# Altium schematic symbol library EVB_AIR208_S7_DEMO.SCHLIB: 37 symbols
Pins are listed as number, name and electrical type; pins without a type are passive.

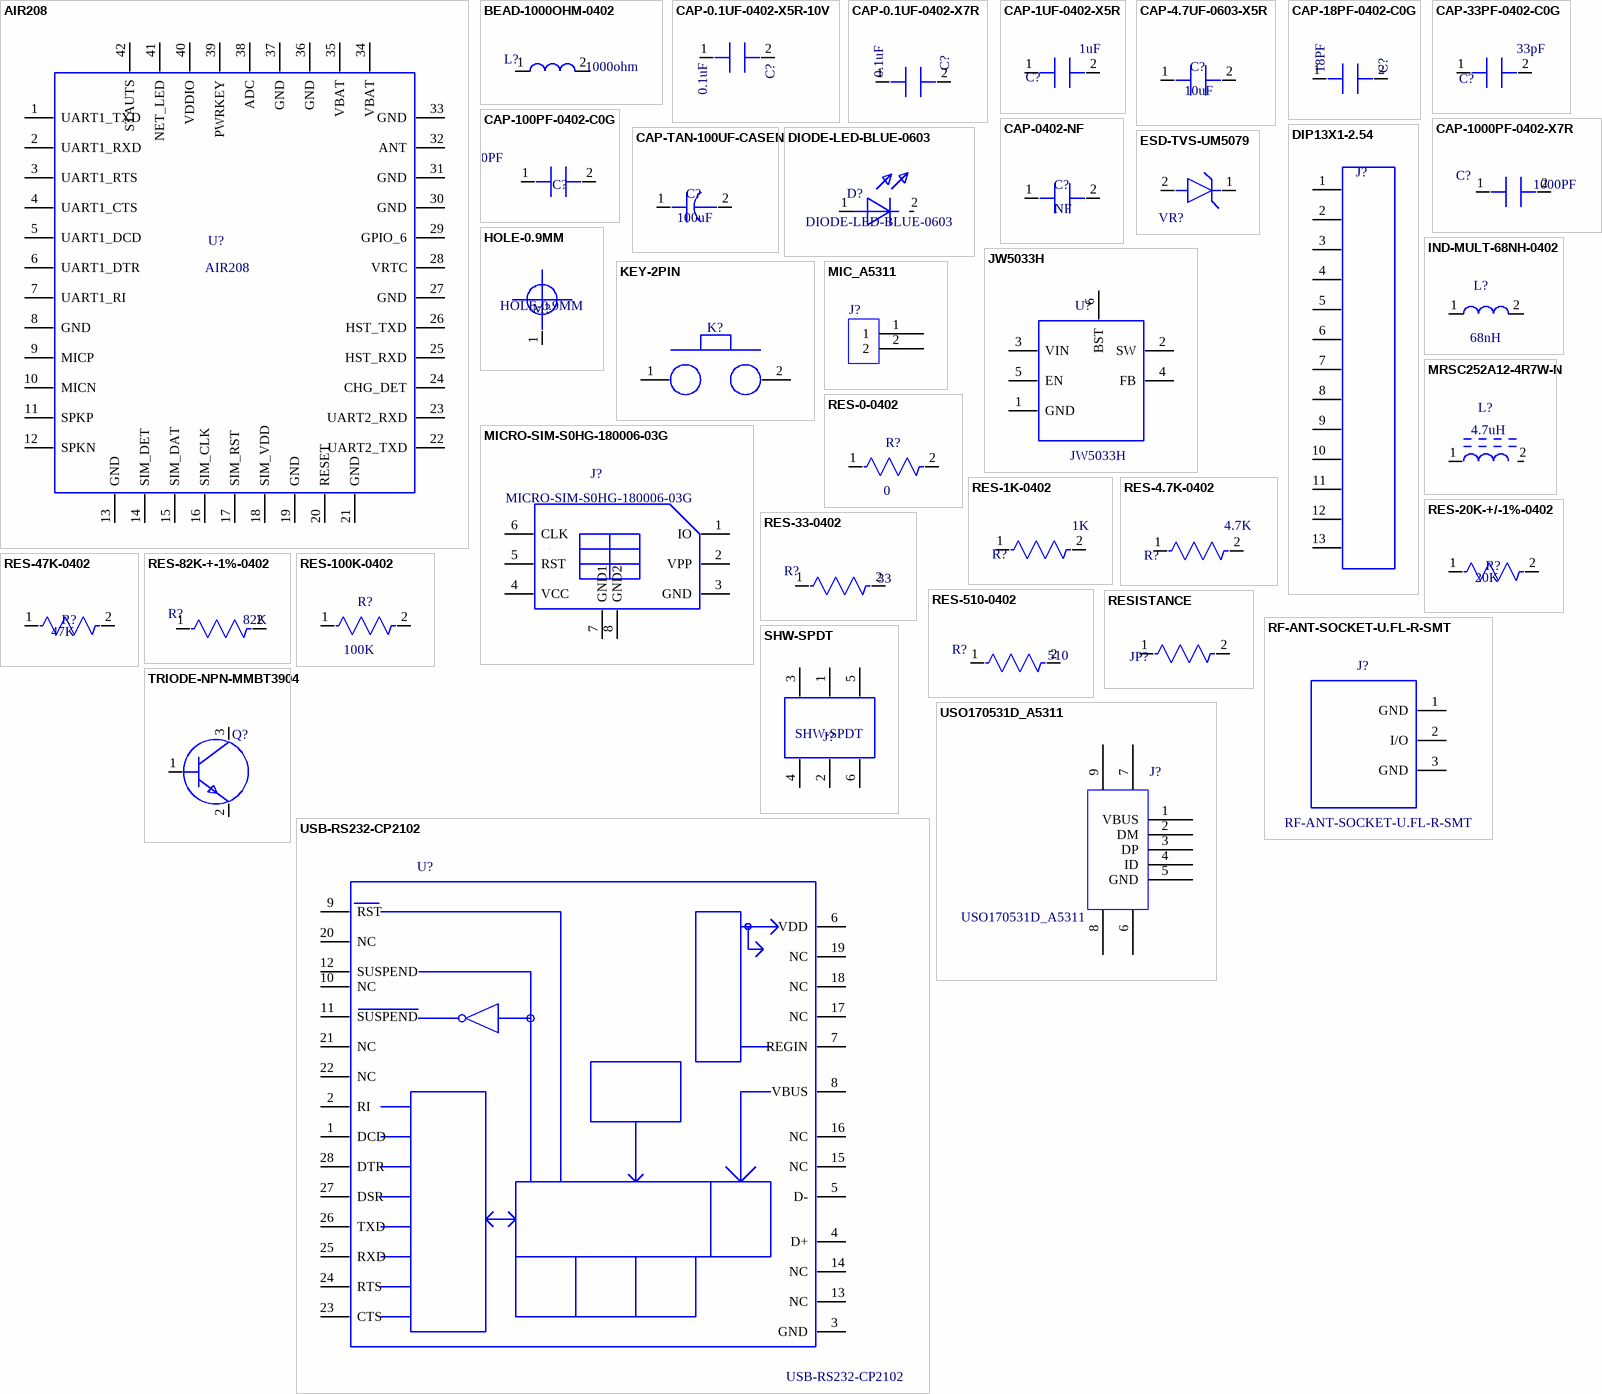
[diagram p0: symbols AIR208 to USO170531D_A5311]

## AIR208
designator U?
Geometry.Height: 2.3 mm; PCB DECAL: AIR208
pins: 1 UART1_TXD, 2 UART1_RXD, 3 UART1_RTS, 4 UART1_CTS, 5 UART1_DCD, 6 UART1_DTR, 7 UART1_RI, 8 GND, 9 MICP, 10 MICN, 11 SPKP, 12 SPKN, 13 GND, 14 SIM_DET, 15 SIM_DAT, 16 SIM_CLK, 17 SIM_RST, 18 SIM_VDD, 19 GND, 20 RESET, 21 GND, 22 UART2_TXD, 23 UART2_RXD, 24 CHG_DET, 25 HST_RXD, 26 HST_TXD, 27 GND, 28 VRTC, 29 GPIO_6, 30 GND, 31 GND, 32 ANT, 33 GND, 34 VBAT, 35 VBAT, 36 GND, 37 GND, 38 ADC, 39 PWRKEY, 40 VDDIO, 41 NET_LED, 42 STAUTS

## BEAD-1000OHM-0402
designator L?  value 1000ohm  (hidden comment: BEAD-1000OHM-0402)
Bead;1000ohm;250mA;0402;0.6mm;ROHS; Manufacture 1: Murata;Taiyo Yuden;Chilisin(奇力新)();; Manufacture 1 P/N: BLM15HD102SN1;BK1005HS102-T;SBJ100505T-102Y-N; Geometry.Height: 0.65mm; Serial Number: 80334000002; PCB DECAL: SL0402
pins: 1, 2

## CAP-0.1UF-0402-X5R-10V
designator C?  value 0.1uF  (hidden comment: CAP-0.1UF-0402-X5R-10V)
CAP CER X5R/X7R;0.1uF;+/-10%;10V;0402;0.5mm;ROHS; Manufacture 1: Murata;Yageo;Walsin;Eyang; Manufacture 1 P/N: GRM155R61A104K****;GRM155R71A104K****;CC0402KRX5R6BB104;0402X104K100CT;C0402X5R104K100N*; Geometry.Height: 0.55mm; Serial Number: 80214720001; PCB DECAL: SC0402; Tolerance: +/-10%
pins: 1, 2

## CAP-0.1UF-0402-X7R
designator C?  value 0.1uF  (hidden comment: CAP-0.1UF-0402-X7R)
CAP CER X7R;0.1uF;+/-10%;16V;0402;0.5mm;ROHS; Manufacture 1: MURATA;Walsin;Yageo;Eyang;; Manufacture 1 P/N: GRM155R71C104K****;0402X104K160CT;CC0402KRX7R7BB104;C0402X5R104K160N*; Geometry.Height: 0.55mm; Serial Number: 80214730006; PCB DECAL: SC0402; Tolerance: +/-10%
pins: 1, 2

## CAP-1UF-0402-X5R
designator C?  value 1uF  (hidden comment: CAP-1UF-0402-X5R)
CAP CER X5R;1uF;+/-10%;6.3V;0402;0.5mm;ROHS; Manufacture 1 P/N: GRM155R60J105K****;CC0402KRX5R5BB105;C1005X5R0J105KT;JMK105BJ105KV-F;ECJ0EB0J105K;0402X105K6R3CT;CL05A105KQ5NNNC; Manufacture 1: Murata;Yageo;TDK;Taiyo Yuden;Panasonic;Walsin;Samsung; Serial Number: 80214710001; Geometry.Height: 0.55mm; PCB DECAL: SC0402; Tolerance: +/-10%
pins: 1, 2

## CAP-4.7UF-0603-X5R
designator C?  value 10uF  (hidden comment: CAP-4.7UF-0603-X5R)
CAP CER X5R;4.7uF;+/-10%;6.3V;0603;0.8mm;ROHS; Manufacture 1: Murata;TDK;Yageo;Taiyo Yuden;Panasonic;Kyocera;Samsung;; Manufacture 1 P/N: GRM188R60J475K****;C1608X5R0J475K;CC0603KRX5R5BB475;JMK107BJ475KA-T;ECJ1VB0J475K;CV105X5R475K06ATCL10A475KQ8NNNC;; Geometry.Height: 0.95mm; Serial Number: 80216710002; PCB DECAL: SC0603; Tolerance: +/-10%
pins: 1, 2

## CAP-18PF-0402-C0G
designator C?  value 18PF  (hidden comment: CAP-18PF-0402-C0G)
CAP CER C0G;18PF;+/-5%;50V;0402;0.5mm;ROHS; Manufacture 1: MURATA;Yageo;Eyang; Manufacture 1 P/N: GRM1555C1H180J****;CC0402JRNPO9BN180;C0402C0G180J500N*; Geometry.Height: 0.55mm; Serial Number: 80214650006; PCB DECAL: SC0402; Tolerance: +/-5%
pins: 1, 2

## CAP-33PF-0402-C0G
designator C?  value 33pF  (hidden comment: CAP-33PF-0402-C0G)
CAP CER C0G;33PF;+/-5%;50V;0402;0.5mm;ROHS; Manufacture 1: MURATA;Yageo;Eyang; Manufacture 1 P/N: GRM1555C1H330J****;CC0402JRNPO9BN330;C0402C0G330J500N*; Geometry.Height: 0.55mm; Serial Number: 80214650008; PCB DECAL: SC0402; Tolerance: +/-5%
pins: 1, 2

## CAP-100PF-0402-C0G
designator C?  value 100PF  (hidden comment: CAP-100PF-0402-C0G)
CAP CER C0G;100PF;+/-5%;50V;0402;0.5mm;ROHS; Manufacture 1: MURATA;TDK;Yageo;Walsin;Eyang; Manufacture 1 P/N: GRM1555C1H101J****;C1005C0G1H101J;CC0402JRNP09BN101;0402N101J500CT;C0402C0G101J500N*; Geometry.Height: 0.55mm; Serial Number: 80214650002; PCB DECAL: SC0402; Tolerance: +/-5%
pins: 1, 2

## CAP-0402-NF
designator C?  value NF  (hidden comment: CAP-0402-NF)
NF; Geometry.Height: 0.55mm; PCB DECAL: SC0402-NF; Manufacture 1: NF; Manufacture 1 P/N: NF; Serial Number: NF
pins: 1, 2

## CAP-1000PF-0402-X7R
designator C?  value 1000PF  (hidden comment: CAP-1000PF-0402-X7R)
CAP CER X7R;1000PF;+/-10%;50V;0402;0.5mm;ROHS; Manufacture 1 P/N: GRM155R71H102K****;CC0402KRX7R9BB102;0402B102K500CT;C0402X7R102K500N*; Manufacture 1: MURATA;Yageo;Walsin;Eyang; Geometry.Height: 0.55mm; Serial Number: 80214750001; PCB DECAL: SC0402; Tolerance: +/-10%
pins: 1, 2

## CAP-TAN-100UF-CASEN
designator C?  value 100uF  (hidden comment: CAP-TAN-100UF-CASEN)
CAP TAN;100uF;+/-20%;16V;CASEN;3.0mm;ROHS; Manufacture 1: Nichicon; Manufacture 1 P/N: F931C107MNC; Serial Number: 80230830001; Geometry.Height: 3.0mm; Tolerance: +/-20%; PCB DECAL: CASEN
pins: 1, 2

## DIODE-LED-BLUE-0603
designator D?
LED;Blue;3V;LED-0603;0.5mm;ROHS; Manufacture 1 P/N: 19-217/BHC-ZL1M2RY/3T;BL-HB336G-TRB;HT-195NB5;; Manufacture 1: Everlight;佰鸿;Harvatek;; Serial Number: 81230000004; Geometry.Height: 0.5mm; PCB DECAL: LED-0603
pins: 1, 2

## DIP13X1-2.54
designator J?  (value not drawn)
Geometry.Height: 0.05mm; PCB DECAL: DIP13X1-2.54
pins: 1, 2, 3, 4, 5, 6, 7, 8, 9, 10, 11, 12, 13

## ESD-TVS-UM5079
designator VR?  (value not drawn)
TVS;7V;65pf;SOD882;ROHS; Manufacture 1: Union;韦尔;; Manufacture 1 P/N: ESD9X7V-2/TR;UM5079; Serial Number: 81121000008; Geometry.Height: 0.55mm; PCB DECAL: ESD-TVS-UM5079
pins: 1, 2

## HOLE-0.9MM
designator M?
Geometry.Height: 0.05mm; PCB DECAL: HOLE-0.9MM
pins: 1

## IND-MULT-68NH-0402
designator L?  value 68nH  (hidden comment: IND-MULT-68NH-0402)
IND MULT;68nH;+/-5%;0402;0.6mm;ROHS; Manufacture 1: TDK;Murata;; Manufacture 1 P/N: MLK1005S68NJT;MLG1005S68NJT;LQG15HS68NJ02D;; Geometry.Height: 0.65mm; Serial Number: 80314610003; PCB DECAL: SL0402; Tolerance: +/-5%
pins: 1, 2

## JW5033H
designator U?
Geometry.Height: 1.1mm; PCB DECAL: JW5033S
pins: 1 GND, 2 SW, 3 VIN, 4 FB, 5 EN, 6 BST

## KEY-2PIN
designator K?  (value not drawn)
SWITCH-KEYPAD; Geometry.Height: 0.05mm; Value: 为射频留缺口 和KEYPAD-4.8X2.8X2.0不同之处; PCB DECAL: KEY-2PIN
pins: 1, 2

## MIC_A5311
designator J?  (value not drawn)
PCB DECAL: MIC_A5311
pins: 1, 2

## MICRO-SIM-S0HG-180006-03G
designator J?
1.8H掀盖 Micro SIM卡座;16.3*14.66*1.8mm; Manufacture 1: 深圳市精睿兴业科技有限公司; Geometry.Height: 1.8mm; Manufacture 1 P/N: S0HG-180006-03G; PCB DECAL: S0HG-180006-03G
pins: 1 IO, 2 VPP, 3 GND, 4 VCC, 5 RST, 6 CLK, 7 GND1, 8 GND2

## MRSC252A12-4R7W-N
designator L?  value 4.7uH  (hidden comment: MRSC252A12-4R7W-N)
Manufacture 1: Chilisin(奇力新); Geometry.Height: 1.2 mm; PCB DECAL: MRSC252A12-4R7W-N
pins: 1, 2

## RES-0-0402
designator R?  value 0  (hidden comment: RES-0-0402)
RES FILM;0;1A;0402;0.4mm;ROHS; Manufacture 1: YAGEO; Manufacture 1 P/N: RC0402JR-070RL; Serial Number: 80114640001; PCB DECAL: SR0402; Geometry.Height: 0.4mm
pins: 1, 2

## RES-1K-0402
designator R?  value 1K  (hidden comment: RES-1K-0402)
RES FILM;1K;+/-5%;1/16W;0402;0.4mm;ROHS; Manufacture 1 P/N: RC0402JR-071KL;WR04X102_JTL; Manufacture 1: YAGEO;Walsin; Geometry.Height: 0.40mm; Serial Number: 80114640003; PCB DECAL: SR0402; Tolerance: +/-5%
pins: 1, 2

## RES-4.7K-0402
designator R?  value 4.7K  (hidden comment: RES-4.7K-0402)
RES FILM;4.7K;+/-5%;1/16W;0402;0.4mm;ROHS; Manufacture 1: YAGEO; Manufacture 1 P/N: RC0402JR-074K7L; Serial Number: 80114640017; PCB DECAL: SR0402; Tolerance: +/-5%; Geometry.Height: 0.4mm
pins: 1, 2

## RES-20K-+/-1%-0402
designator R?  value 20K  (hidden comment: RES-20K-+/-1%-0402)
RES FILM;20K;+/-1%;1/16W;0402;0.4mm;ROHS; Manufacture 1 P/N: RC0402FR-0720KL; Manufacture 1: YAGEO; Serial Number: 80114440008; PCB DECAL: SR0402; Geometry.Height: 0.4mm; Tolerance: +/-1%
pins: 1, 2

## RES-33-0402
designator R?  value 33  (hidden comment: RES-33-0402)
RES FILM;33;+/-5%;1/16W;0402;0.4mm;ROHS; Manufacture 1 P/N: RC0402JR-0733RL; Manufacture 1: YAGEO; Serial Number: 80114640011; PCB DECAL: SR0402; Geometry.Height: 0.4mm; Tolerance: +/-5%
pins: 1, 2

## RES-47K-0402
designator R?  value 47K  (hidden comment: RES-47K-0402)
RES FILM;47K;+/-5%;1/16W;0402;0.4mm;ROHS; Manufacture 1 P/N: RC0402JR-0747KL; Manufacture 1: YAGEO; Serial Number: 80114640048; PCB DECAL: SR0402; Geometry.Height: 0.4mm; Tolerance: +/-5%
pins: 1, 2

## RES-82K-+-1%-0402
designator R?  value 82K  (hidden comment: RES-82K-+-1%-0402)
RES FILM;82K;+/-1%;1/16W;0402;0.4mm;ROHS; Manufacture 1: YAGEO; Manufacture 1 P/N: RC0402FR-0782KL; Serial Number: 80114440040; PCB DECAL: SR0402; Geometry.Height: 0.4mm; Tolerance: +/-1%
pins: 1, 2

## RES-100K-0402
designator R?  value 100K  (hidden comment: RES-100K-0402)
RES FILM;100K;+/-5%;1/16W;0402;0.4mm;ROHS; Manufacture 1: YAGEO;Walsin; Manufacture 1 P/N: RC0402JR-07100KL;WR04X104_JTL;; Geometry.Height: 0.40mm; Serial Number: 80114640005; PCB DECAL: SR0402; Tolerance: +/-5%
pins: 1, 2

## RES-510-0402
designator R?  value 510  (hidden comment: RES-510-0402)
RES FILM;510;+/-5%;1/16W;0402;0.4mm;ROHS; Manufacture 1: YAGEO; Manufacture 1 P/N: RC0402JR-07510RL; Serial Number: 80114640014; PCB DECAL: SR0402; Geometry.Height: 0.4mm; Tolerance: +/-5%
pins: 1, 2

## RESISTANCE
designator JP?  (value not drawn)
value: NI/0; PCB DECAL: R60L08
pins: 1, 2

## RF-ANT-SOCKET-U.FL-R-SMT
designator J?
RF CONNECTOR;3*3*1.25mm;ROHS; Manufacture 1: Hirose; Serial Number: 80830000004; Geometry.Height: 1.25mm; Manufacture 1 P/N: U.FL-R-SMT; PCB DECAL: RF-ANT-SOCKET-U.FL-R-SMT
pins: 1 GND, 2 I/O, 3 GND

## SHW-SPDT
designator J?
Geometry.Height: 5.5mm; PCB DECAL: SHW-SPDT
pins: 1, 2, 3, 4, 5, 6

## TRIODE-NPN-MMBT3904
designator Q?  (value not drawn)
Transistor;NPN;40V;200mA;SOT23;1.1mm;ROHS; Manufacture 1: 长电; Serial Number: 81232000008; PCB DECAL: SOT-23(MMBT3904); Geometry.Height: 1.1mm; Manufacture 1 P/N: MMBT3904
pins: 1, 2, 3

## USB-RS232-CP2102
designator U?
usb trasiver 3.3v 28pin 5*5mm; Manufacture 1 P/N: CP2102-GM; Manufacture 1: Silabs;; Geometry.Height: 1mm; Serial Number: 81700000004; PCB DECAL: USB-DRIVER-CP2102
pins: 1 DCD, 2 RI, 3 GND, 4 D+, 5 D-, 6 VDD, 7 REGIN, 8 VBUS, 9 RST, 10 NC, 11 SUSPEND, 12 SUSPEND, 13 NC, 14 NC, 15 NC, 16 NC, 17 NC, 18 NC, 19 NC, 20 NC, 21 NC, 22 NC, 23 CTS, 24 RTS, 25 RXD, 26 TXD, 27 DSR, 28 DTR, 29 GND (power) hidden to GND, 30 GND (power) hidden to GND

## USO170531D_A5311
designator J?
Geometry.Height: 2.35mm; PCB DECAL: USO170531D_A5311
pins: 1 VBUS, 2 DM, 3 DP, 4 ID, 5 GND, 6, 7, 8, 9, 10 GND (power) hidden to GND, 11 GND (power) hidden to GND